# Altium footprint library Resistor^Capacitor^Inductor.PcbLib: 27 footprints (part 1 of 2)
Each footprint in its own frame and in the unit in brackets; x right, y up, seen from the top. Pads: shape width x height; smd on the part's side, far side on the other; paste and mask are expansions set on the pad; w line width, h text height; cw(c..) or ccw(c..) is an arc to the next point about the centre after c.
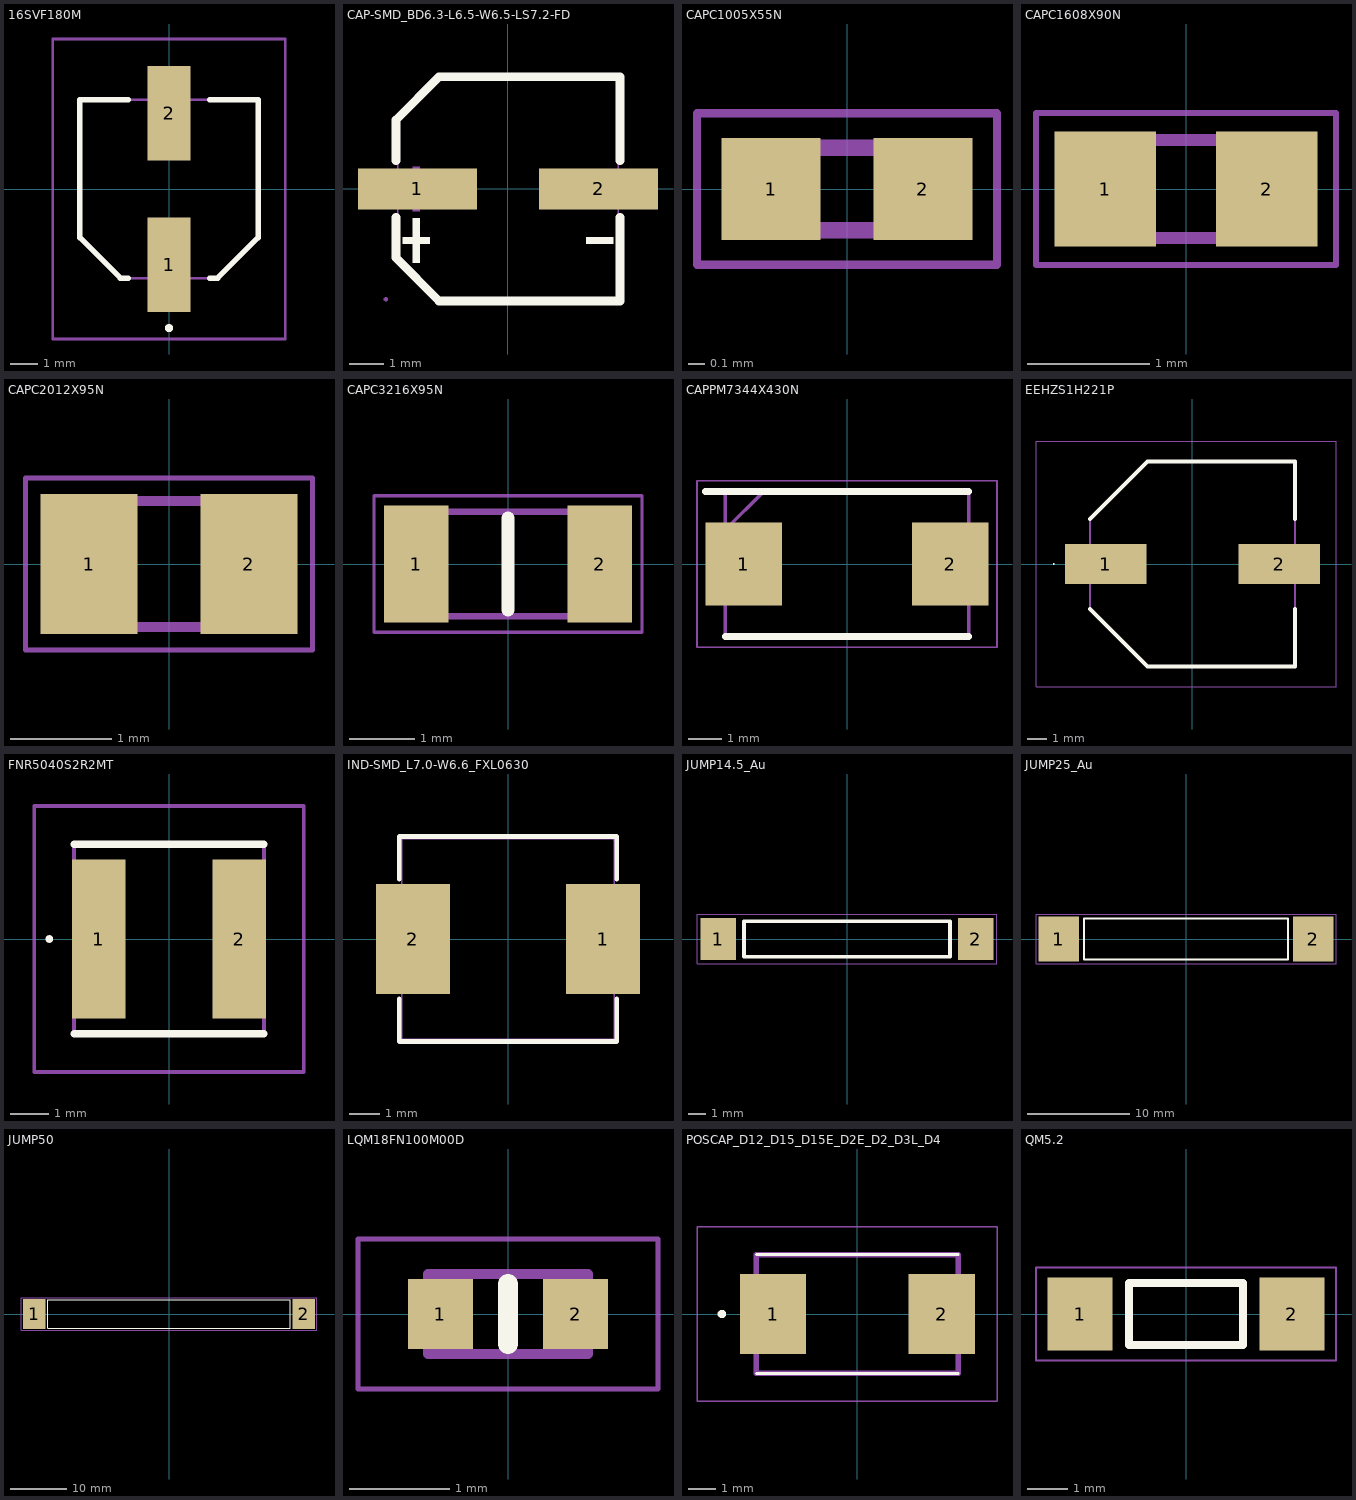
[diagram p0: the footprints below, top view; thin cyan lines are the x and y axes]

## 16SVF180M [mm]
pads (2):
  rect 1.6x3.5 smd: 1(0,-2.8) 2(0,2.8)
Top Overlay:
  lines w0.2: -1.5,-3.3 -1.8,-3.3 -3.3,-1.8 -3.3,3.3 -1.5,3.3 ; 1.5,-3.3 1.8,-3.3 3.3,-1.8 3.3,3.3 1.5,3.3 ; 0,-5.2 cw(c0,-5.15) 0,-5.1 ; 0,-5.2 ccw(c0,-5.15) 0,-5.1 ; 0,-5.2 cw(c0,-5.15) 0,-5.1
Mechanical 13:
  lines w0.1: -3.3,-1.8 -1.8,-3.3 1.8,-3.3 3.3,-1.8 3.3,3.3 -3.3,3.3 -3.3,2.7 -3.3,-1.8
Mechanical 15:
  lines w0.1: -4.3,-5.55 -4.3,5.55 4.3,5.55 4.3,-5.55 -4.3,-5.55
3D body "6SVQP100M.stp": height 5.98, standoff 0.08, extent -3.3,-3.65 3.3,3.65

## CAP-SMD_BD6.3-L6.5-W6.5-LS7.2-FD [mm]
pads (2):
  rect 3.5x1.2 smd: 1(-2.67,0) 2(2.67,0)
Top Overlay:
  region: -2.805,-0.858 -2.805,-2.178 -2.607,-2.178 -2.607,-0.858
  region: -3.102,-1.419 -3.102,-1.617 -2.31,-1.617 -2.31,-1.419
  region: 3.102,-1.419 3.102,-1.617 2.31,-1.617 2.31,-1.419
  lines w0.254: -3.302,-0.831 -3.302,-2.032 -2.032,-3.302 3.302,-3.302 3.302,-0.831 ; -3.302,0.831 -3.302,2.032 -2.032,3.302 -1.905,3.302 3.302,3.302 3.302,0.831 3.302,1.143
Mechanical 6:
  region: -2.805,0.66 -2.805,-0.66 -2.607,-0.66 -2.607,0.66
  region: -3.102,0.099 -3.102,-0.099 -2.31,-0.099 -2.31,0.099
  region: 3.102,0.099 3.102,-0.099 2.31,-0.099 2.31,0.099
Mechanical 15:
  region: -3.6,0.35 -1.05,0.35 -1.05,-0.35 -3.6,-0.35
  region: 1.05,0.35 3.6,0.35 3.6,-0.35 1.05,-0.35
  region: -3.54,-3.25 -3.541,-3.226 -3.576,-3.193 -3.624,-3.193 -3.659,-3.226 -3.66,-3.25 -3.659,-3.274 -3.624,-3.308 -3.576,-3.308 -3.541,-3.274 -3.54,-3.25
  lines w0.051: -3.25,-1.98 -3.25,1.98 -1.98,3.25 3.25,3.25 3.25,-3.25 -1.98,-3.25 -3.25,-1.98

## CAPC1005X55N [mm]
pads (2):
  rect 0.6x0.62 smd: 1(-0.46,0) 2(0.46,0)
Mechanical 13:
  lines w0.1: -0.5,-0.25 -0.5,0.25 0.5,0.25 0.5,-0.25 -0.5,-0.25
Mechanical 15:
  lines w0.05: -0.91,-0.46 -0.91,0.46 0.91,0.46 0.91,-0.46 -0.91,-0.46
3D body "CC0402KRX7R7BB104.stp": height 0.25, standoff -0.25, extent -0.5,-0.25 0.5,0.25

## CAPC1608X90N [mm]
pads (2):
  rect 0.83x0.94 smd: 1(-0.66,0) 2(0.66,0)
Mechanical 13:
  lines w0.1: -0.8,-0.4 -0.8,0.4 0.8,0.4 0.8,-0.4 -0.8,-0.4
Mechanical 15:
  lines w0.05: -1.225,-0.62 -1.225,0.62 1.225,0.62 1.225,-0.62 -1.225,-0.62
3D body "CC0603KRX7R9BB104.stp": height 0.9, standoff 0, extent -0.8,-0.4 0.8,0.4

## CAPC2012X95N [mm]
pads (2):
  rect 0.96x1.39 smd: 1(-0.79,0) 2(0.79,0)
Mechanical 13:
  lines w0.1: -1,-0.625 1,-0.625 1,0.625 -1,0.625 -1,-0.625
Mechanical 15:
  lines w0.05: -1.42,-0.85 1.42,-0.85 1.42,0.85 -1.42,0.85 -1.42,-0.85
3D body "CC0805KRX7R9BB104.stp": height 0.95, standoff 0, extent -1,-0.625 1,0.625

## CAPC3216X95N [mm]
pads (2):
  rect 0.99x1.78 smd: 1(-1.4,0) 2(1.4,0)
Top Overlay:
  lines w0.2: 0,-0.7 0,0.7
Mechanical 13:
  lines w0.1: -1.6,-0.8 1.6,-0.8 1.6,0.8 -1.6,0.8 -1.6,-0.8
Mechanical 15:
  lines w0.05: -2.045,-1.04 2.045,-1.04 2.045,1.04 -2.045,1.04 -2.045,-1.04
3D body "CC1206KRX7R9BB104.stp": height 0.95, standoff 0, extent -1.6,-0.8 1.6,0.8

## CAPPM7344X430N [mm]
pads (2):
  rect 2.3x2.5 smd: 1(-3.1,0) 2(3.1,0)
Top Overlay:
  lines w0.2: -4.25,2.175 3.65,2.175 ; -3.65,-2.175 3.65,-2.175
Mechanical 13:
  lines w0.1: -3.65,1.025 -2.5,2.175 ; -3.65,-2.175 3.65,-2.175 3.65,2.175 -3.65,2.175 -3.65,-2.175
Mechanical 15:
  lines w0.05: -4.5,-2.5 4.5,-2.5 4.5,2.5 -4.5,2.5 -4.5,-2.5
3D body "TAJE337M016RNJ.stp": height 4.3, standoff 0, extent -3.65,-2.175 3.65,2.175

## EEHZS1H221P [mm]
pads (2):
  rect 4.1x2 smd: 1(-4.35,0) 2(4.35,0)
Top Overlay:
  lines w0.05: -6.975,0 cw(c-6.95,0) -6.925,0 cw(c-6.95,0) -6.975,0
  lines w0.2: -5.15,-2.25 -2.25,-5.15 5.15,-5.15 5.15,-2.25 ; -5.15,2.25 -2.25,5.15 4.5,5.15 5.15,5.15 5.15,2.25
Mechanical 13:
  lines w0.1: -5.15,2.25 -2.25,5.15 ; -5.15,2.25 -5.15,-2.25 -2.25,-5.15 5.15,-5.15 5.15,5.15 -2.25,5.15 ; -5.15,2.25 -2.25,5.15
Mechanical 15:
  lines w0.05: -7.85,-6.15 -7.85,6.15 7.2,6.15 7.2,-6.15 -7.85,-6.15
3D body "EEHZC1H101P.stp": height 16.5, standoff 0, extent -5.83,-5.15 5.17,5.15

## FNR5040S2R2MT [mm]
pads (2):
  rect 1.4x4.2 smd: 1(-1.85,0) 2(1.85,0)
Top Overlay:
  lines w0.1: -3.2,0 ccw(c-3.15,0) -3.1,0 ccw(c-3.15,0) -3.2,0
  lines w0.2: -2.5,-2.5 2.5,-2.5 ; -2.5,2.5 2.5,2.5
Mechanical 13:
  lines w0.1: -2.5,-2.5 -2.5,2.5 2.5,2.5 2.5,-2.5 -2.5,-2.5
Mechanical 15:
  lines w0.1: -3.55,-3.5 -3.55,3.5 3.55,3.5 3.55,-3.5 -3.55,-3.5
3D body "FNR5040S2R2MT.stp": height 4.1, standoff 0, extent -2.5,-2.5 2.5,2.5

## IND-SMD_L7.0-W6.6_FXL0630 [mm]
pads (2):
  rect 2.424x3.62 smd: 1(3.128,0) 2(-3.128,0)
Top Overlay:
  lines w0.152: -3.576,-1.962 -3.576,-3.376 3.576,-3.376 3.576,-1.962 ; -3.576,1.962 -3.576,3.376 3.576,3.376 3.576,1.962
Mechanical 15:
  region: 3.56,3.3 3.56,3.325 3.525,3.359 3.475,3.359 3.44,3.325 3.44,3.3 3.44,3.275 3.475,3.241 3.525,3.241 3.56,3.275 3.56,3.3
  region: -3.5,-1.6 -3.5,1.6 -2,1.6 -2,-1.6
  region: 3.5,-1.6 3.5,1.6 2,1.6 2,-1.6
  lines w0.051: -3.5,-3.3 -3.5,3.3 3.5,3.3 3.5,-3.3 -3.5,-3.3

## JUMP14.5_Au [mm]
pads (2):
  rect 2x2.4 smd: 1(-7.3,0) 2(7.3,0)
Top Overlay:
  lines w0.203: -5.842,-1.016 5.842,-1.016 5.842,1.016 -5.842,1.016 -5.842,-1.016
Mechanical 15:
  lines w0.05: -8.509,-1.397 -8.509,1.397 8.509,1.397 8.509,-1.397 -8.509,-1.397

## JUMP25_Au [mm]
pads (2):
  rect 4x4.4 smd: 1(-12.5,0) 2(12.5,0)
Top Overlay:
  lines w0.203: -10.033,-2.032 -10.033,2.032 10.033,2.032 10.033,-2.032 -10.033,-2.032
Mechanical 15:
  lines w0.05: -14.732,-2.413 14.732,-2.413 14.732,2.413 -14.732,2.413 -14.732,-2.413

## JUMP50 [mm]
pads (2):
  rect 4x5.4 smd: 1(-24,0) 2(24,0)
Top Overlay:
  lines w0.203: -21.59,-2.54 -21.59,2.54 21.59,2.54 21.59,-2.54 -21.59,-2.54
Mechanical 15:
  lines w0.05: -26.289,-2.921 26.289,-2.921 26.289,2.921 -26.289,2.921 -26.289,-2.921

## LQM18FN100M00D [mm]
pads (2):
  rect 0.65x0.7 smd: 1(-0.675,0) 2(0.675,0)
Top Overlay:
  lines w0.2: 0,-0.3 0,0.3
Mechanical 13:
  lines w0.1: -0.8,-0.4 -0.8,0.4 0.8,0.4 0.8,-0.4 -0.8,-0.4
Mechanical 15:
  lines w0.05: -1.5,-0.75 -1.5,0.75 1.5,0.75 1.5,-0.75 -1.5,-0.75
3D body "LQM18FN100M00D.stp": height 0.8, standoff 0, extent -0.8,-0.4 0.8,0.4

## POSCAP_D12_D15_D15E_D2E_D2_D3L_D4 [mm]
pads (2):
  rect 2.4x2.9 smd: 1(-3.05,0) 2(3.05,0)
Top Overlay:
  circle w0.2: c-4.9,0 r0.05
  lines w0.1: -3.65,-2.15 3.65,-2.15 ; -3.65,2.15 3.65,2.15
Mechanical 13:
  lines w0.2: -3.65,-2.15 3.65,-2.15 3.65,2.15 -3.65,2.15 -3.65,-2.15
Mechanical 15:
  lines w0.05: -5.8,-3.15 5.05,-3.15 5.05,3.15 -5.8,3.15 -5.8,-3.15
3D body "10TPB330M.stp": height 1.8, standoff 0, extent -3.65,-2.15 3.65,2.15

## QM5.2 [mm]
pads (2):
  rect 1.6x1.8 smd: 1(-2.6,0) 2(2.6,0)
Top Overlay:
  lines w0.203: -1.397,-0.762 -1.397,0.762 1.397,0.762 1.397,-0.762 -1.397,-0.762
Mechanical 15:
  lines w0.05: -3.683,-1.143 -3.683,1.143 3.683,1.143 3.683,-1.143 -3.683,-1.143